# Altium schematic symbol library PD_BQ_Ref_Design.SCHLIB: 40 symbols
Pins are listed as number, name and electrical type; pins without a type are passive.

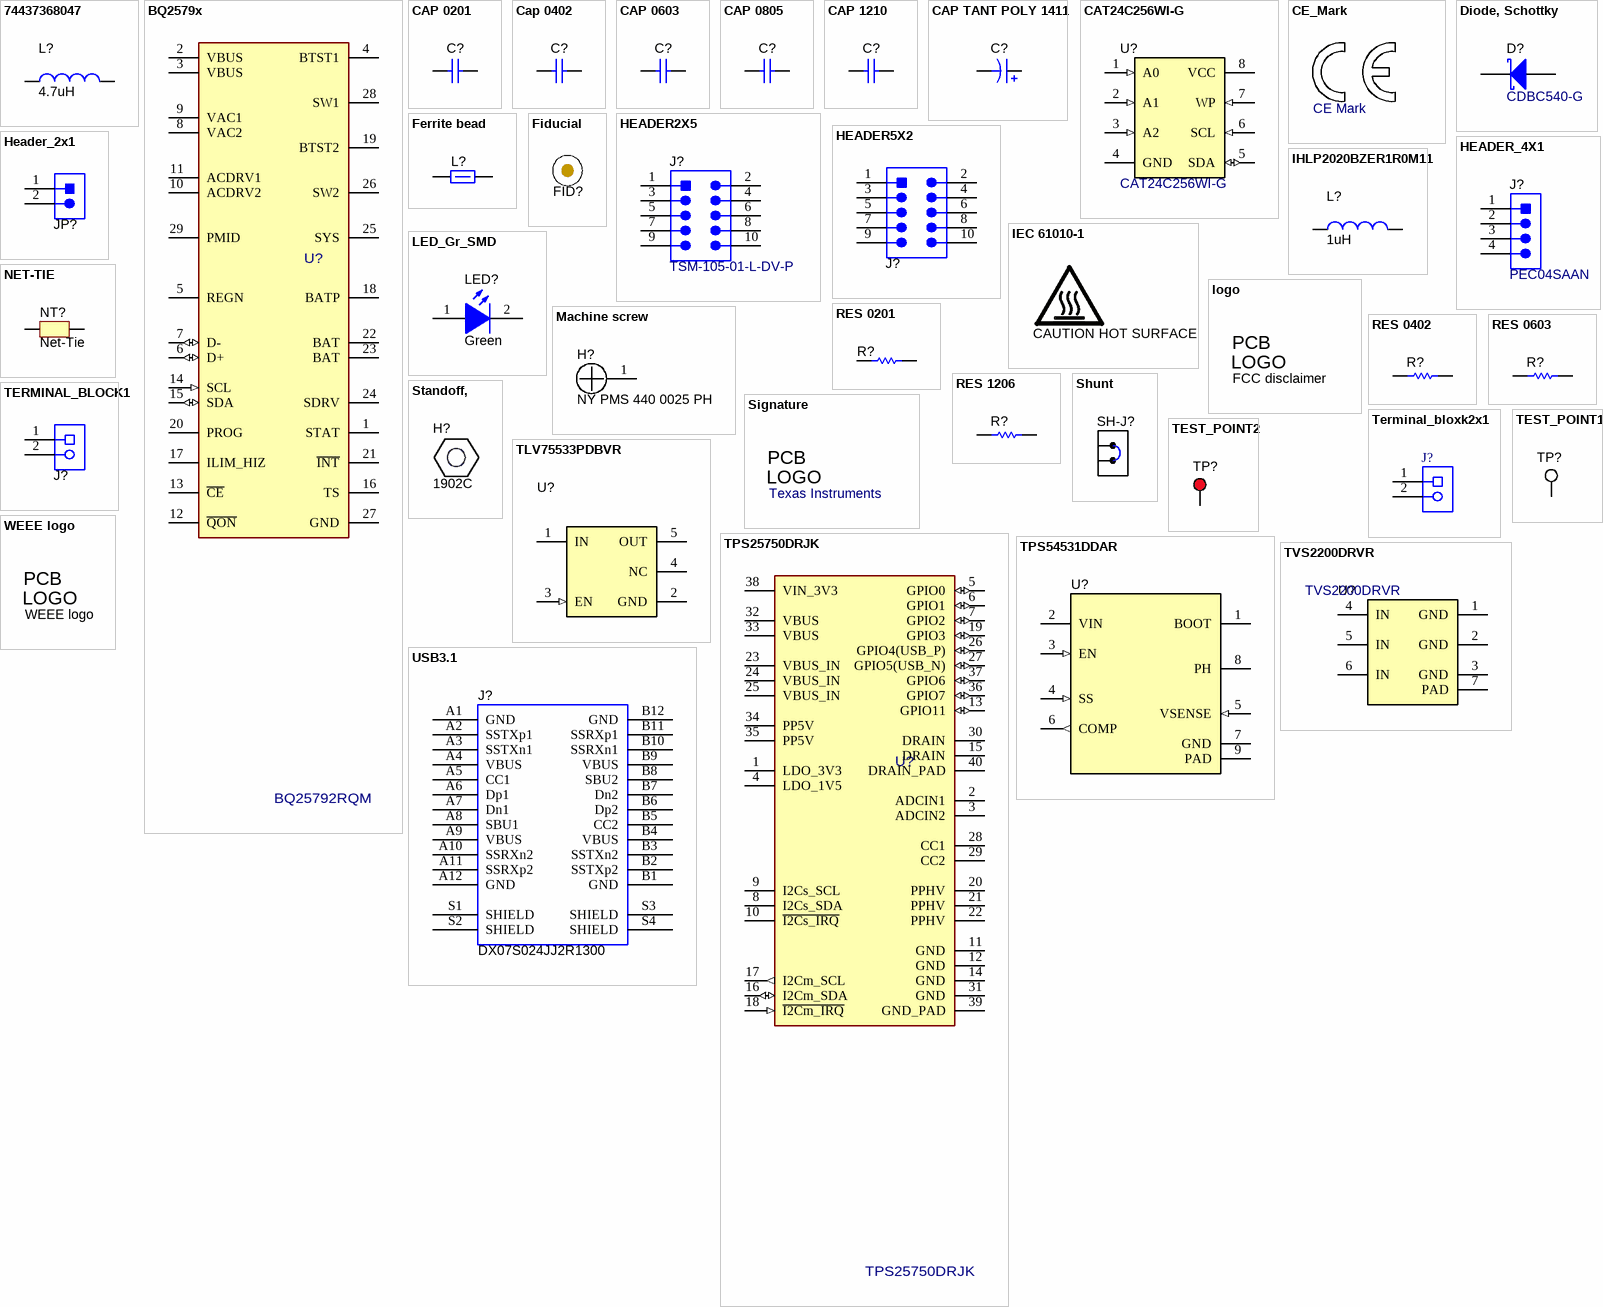
[diagram p0: symbols 74437368047 to WEEE logo]

## 74437368047
designator L?  ValueDisplayed: 4.7uH  (hidden comment: 74437368047)
Inductor, Shielded Drum Core, Powdered Iron, 4.7 uH, 7 A, 0.015 ohm, SMD; Manufacturer: Wurth Elektronik; Isat: 19A @ 20% inductance drop; Irms: 7A @ 40C rise; Green_Lifecycle: Active; SizeAreaWB_mm2: 156; DCR_ohm: 0.015; Green_REACh: Passed; Value: 4.7uH; Imax_A: 7A; SizeZ_mm: 4; SizeX_mm: 11; SizeY_mm: 10; SizeArea_mm2: 110; Ind_H: 4.7µH; AEC Category: Q200; ComponentLink1URL: http://katalog.we-online.de/kataloge/eisos/media/pdf/74437368047.pdf; Supplier Part Number 2: 82T3283; Publisher: Texas Instruments; Supplier 2: Newark; Supplier Part Number 3: 710-74437368047; Supplier 3: Mouser; Published: 2008-06-26; RoHS: Y; Value1: 0.015 ohm; Material: Powdered Iron; MountType: SMT; Green_EU RoHS-2: Incomplete; Supplier 1: Digi-Key; Green_EU RoHS: Passed; PackageReference: 10x3.8x10mm; Value2: 7A; CompType: Inductor; LatestRevisionDate: 2017-06-02; PartNumber: 74437368047; AEC Qualified: ?; ComponentLink1Description: Datasheet link; Supplier Part Number 1: 732-3389-1-ND; Technology: Shielded Drum Core
footprint WE-LHMI_1040 (Wurth)
pins: 1, 2

## BQ2579x
designator U?, comment BQ25792RQM
BQ2579x HotRod; Manufacturer: Texas Instruments; SizeZ_mm: 1mm; Standoff Height: 0mm; helpURL: https://upverter.com/upn/revision/94d0648e55e6c5c0/; Operating Temperature Range: to; Part Number: BQ25792RQM; Datasheet Path: datasheets/IC-BQ25792RQM.pdf; PackageReference: VQFN-HR29; RoHS: UNKNOWN
footprint RQM0029A-MFG
pins: 1 STAT, 2 VBUS (power), 3 VBUS (power), 4 BTST1, 5 REGN, 6 D+ (io), 7 D- (io), 8 VAC2 (power), 9 VAC1 (power), 10 ACDRV2 (power), 11 ACDRV1 (power), 12 ~{QON}, 13 ~{CE}, 14 SCL (in), 15 SDA (io), 16 TS, 17 ILIM_HIZ, 18 BATP, 19 BTST2, 20 PROG, 21 ~{INT}, 22 BAT, 23 BAT, 24 SDRV, 25 SYS, 26 SW2, 27 GND (power), 28 SW1, 29 PMID

## CAP 0201
designator C?
Manufacturer: MuRata; PartNumber: GRM033R71H331KA12D; TaMin_C: -55°C; Polarized: N; TempCo: X7R; SizeAreaWB_mm2: 2.08; Value1: Unknown; U/M: EA; Value: 330pF; TaMax_C: 125°C; Tolerance_%: 10%; SizeZ_mm: 0.33; SizeX_mm: 0.6; SizeY_mm: 0.3; Cap_Case: 0201; Value2: 50V; SizeArea_mm2: 0.18; CompType: Capacitor; AEC Category: Q200; Supplier Part Number 2: 81-GRM033R71H331KA2D; Publisher: Texas Instruments; Supplier 2: Mouser; Published: 2008-06-19; RoHS: Y; MountType: SMT; Supplier 1: Digi-Key; PackageReference: 0201; LatestRevisionDate: 2017-03-09; AEC Qualified: N; Cap_F: 330pF; ComponentLink1Description: Datasheet link; AEC Grade: N/A; Supplier Part Number 1: GRM033R71H331KA12D-ND; Technology: Ceramic; ComponentLink1URL: http://psearch.en.murata.com/capacitor/product/GRM033R71H331KA12%23.pdf
footprint 0201_033 (SMD, 2-Leads, Height 0.33mm)
footprint 0201_033L (0201)
footprint 0201_033M (0201)
pins: 1, 2

## Cap 0402
designator C?
Manufacturer: Kemet; PartNumber: C0402C102K5RACTU; TaMin_C: -55°C; Polarized: N; TempCo: X7R; SizeAreaWB_mm2: 3; Value1: Unknown; U/M: EA; Value: 1000pF; TaMax_C: 125°C; Tolerance_%: 10%; SizeZ_mm: 0.6; SizeX_mm: 1; SizeY_mm: 0.5; Cap_Case: 0402; Value2: 50V; CompType: Capacitor; Cap_F: 1nF; AEC Category: Q200; Supplier Part Number 2: 53M7151; Publisher: Texas Instruments; Supplier 2: Newark; Supplier Part Number 3: 80-C0402C102K5R; Supplier 3: Mouser; Published: 2008-06-19; RoHS: Y; MountType: SMT; Supplier 1: Digi-Key; PackageReference: 0402; SizeArea_mm2: 0.5; LatestRevisionDate: 2017-03-09; AEC Qualified: N; ComponentLink1Description: Datasheet link; AEC Grade: N/A; Supplier Part Number 1: 399-1032-1-ND; Technology: Ceramic; ComponentLink1URL: http://www.kemet.com/docfinder?Partnumber=C0402C102K5RACTU
footprint 0402 (0402 from SM-752 data)
footprint 0402S (Based on C0402S footprint from PADS legacy)
footprint 0402L (0402 from SM-752 data)
footprint 0402M (0402 from SM-752 data)
pins: 1, 2

## CAP 0603
designator C?
Manufacturer: AVX; PartNumber: 06031C103KAT2A; TaMin_C: -55°C; ESR_ohm: 0.098; Polarized: N; TempCo: X7R; SizeAreaWB_mm2: 4.68; Value1: 0.098 ohm; U/M: EA; Value: 0.01uF; TaMax_C: 125°C; Tolerance_%: 10%; SizeZ_mm: 1; SizeX_mm: 1.6; SizeY_mm: 0.8; Cap_Case: 0603; Value2: 100V; SizeArea_mm2: 1.28; CompType: Capacitor; AEC Category: Q200; Supplier Part Number 2: 96K4758; Publisher: Texas Instruments; Supplier 2: Newark; Supplier Part Number 3: 581-06031C103K; Supplier 3: Mouser; Published: 2008-06-19; RoHS: Y; MountType: SMT; Supplier 1: Digi-Key; PackageReference: 0603; LatestRevisionDate: 2017-03-09; AEC Qualified: N; ComponentLink1Description: Datasheet link; AEC Grade: N/A; Supplier Part Number 1: 478-1205-1-ND; Technology: Ceramic; ValueDisplayed: 0.01uF; ComponentLink1URL: http://datasheets.avx.com/X7RDielectric.pdf
footprint 0603 (0603 from SM-752 data)
footprint 0603_HV (Ernesto recommended land pattern.  26 mil between pads.)
footprint 0603L (0603 from SM-752 data)
footprint 0603S
footprint 0603M (0603 from SM-752 data)
pins: 1, 2

## CAP 0805
designator C?
Manufacturer: TDK; PartNumber: C2012X5R1E106K125AB; TaMin_C: -55°C; Polarized: N; TempCo: X5R; SizeAreaWB_mm2: 6.75; Value1: Unknown; U/M: EA; Value: 10uF; TaMax_C: 85°C; Tolerance_%: 10%; SizeZ_mm: 1.45; SizeX_mm: 2; SizeY_mm: 1.25; Cap_Case: 0805; Value2: 25V; SizeArea_mm2: 2.5; CompType: Capacitor; Cap_F: 10µF; AEC Category: Q200; ComponentLink1URL: http://www.tdk.com/pdf/TDKMLCCCapRange.pdf; Publisher: Texas Instruments; Published: 2008-06-19; RoHS: Y; MountType: SMT; Supplier 1: Digi-Key; PackageReference: 0805; LatestRevisionDate: 2017-03-09; AEC Qualified: ?; ComponentLink1Description: Datasheet link; Supplier Part Number 1: 445-5984-1-ND; Technology: Ceramic; VDC_V: 25V
footprint 0805_HV (0805 with 30mil clearance between pads)
footprint 0805M (0805 from SM-752 data)
footprint 0805 (0805 from SM-752 data)
footprint 0805L (0805 from SM-752 data)
footprint 0805_HV1 (Custom footprint based on analyzing multiple manufacturer recommendations)
pins: 1, 2

## CAP 1210
designator C?
Manufacturer: MuRata; PartNumber: GRM32ER61A476KE20L; TaMin_C: -55°C; ESR_ohm: 1m; Polarized: N; TempCo: X5R; SizeAreaWB_mm2: 14.7; Value1: 0.001 ohm; U/M: EA; Value: 47uF; TaMax_C: 85°C; Tolerance_%: 10%; SizeZ_mm: 2.7; SizeX_mm: 3.2; SizeY_mm: 2.5; Cap_Case: 1210; Value2: 10V; SizeArea_mm2: 8; CompType: Capacitor; Cap_F: 47µF; AEC Category: Q200; Supplier Part Number 2: 1828818; Publisher: Texas Instruments; Supplier 2: Farnell; Published: 2008-06-19; RoHS: Y; MountType: SMT; Supplier 1: Mouser; PackageReference: 1210; LatestRevisionDate: 2017-03-09; AEC Qualified: ?; ComponentLink1Description: Datasheet link; Supplier Part Number 1: 81-GRM32ER61A476KE20; Technology: Ceramic; ComponentLink1URL: http://search.murata.co.jp/Ceramy/PnsearchViewAction.do?HnOFG=ON&HnNFG=ON&SEL_CNT=50&sLang=en&sKey=GRM32ER61A476KE20L&x=9&y=9&search=startwith
footprint 1210_270 (1210)
footprint 1210_270L (1210)
footprint 1210_270M (1210)
pins: 1, 2

## CAP TANT POLY 1411
designator C?, comment T520B107M006ATE015  (value not drawn)
CAP, TA, 100 uF, 6.3 V, +/- 20%, 0.015 ohm, SMD; Manufacturer: Kemet; TaMin_C: -55°C; ESR_ohm: 0.015; Polarized: Y; SizeAreaWB_mm2: 17.1; U/M: EA; Value: 100uF; TaMax_C: 105°C; SizeZ_mm: 2.1; SizeX_mm: 3.5; SizeY_mm: 2.8; Cap_Case: 3528-21; Value2: 6.3V; SizeArea_mm2: 9.8; CompType: Capacitor; AEC Qualified: N; Cap_F: 100µF; IRMS_A: 2.9A; AEC Category: Q200; Supplier Part Number 2: 74M5065; Publisher: Texas Instruments; Supplier 2: Newark; Supplier Part Number 3: 80-T520B107M6ATE15; Supplier 3: Mouser; RoHS: Y; Value1: 0.015 ohm; MountType: SMT; Supplier 1: Digi-Key; LatestRevisionNote: Updated supplier links; PackageReference: 3528-21; Tolerance_%: 20%; LatestRevisionDate: 2017-03-09; PartNumber: T520B107M006ATE015; Series: T520; ComponentLink1Description: Datasheet link; AEC Grade: N/A; Supplier Part Number 1: 399-5306-1-ND; Technology: TA; ComponentLink1URL: http://www.kemet.com/Lists/ProductCatalog/Attachments/421/KEM_T2015_T520.pdf
footprint 3528-21 (Medium Density IPC, based on Kemet datasheet 2016-10-20)
pins: 1 +, 2 -

## CAT24C256WI-G
designator U?
256 kb I2C CMOS Serial EEPROM, SOIC-8; Manufacturer: ON Semiconductor; SizeAreaWB_mm2: 55.131; SizeZ_mm: 1.75; SizeX_mm: 5.99; SizeY_mm: 4.9; SizeArea_mm2: 29.351; Supplier Part Number 2: 06R0552; Publisher: Texas Instruments; Supplier 2: Newark; Supplier Part Number 3: 698-CAT24C256WI-G; Supplier 3: Mouser; RoHS: Y; MountType: SMT; Supplier 1: Digi-Key; PackageReference: SOIC-8; LatestRevisionDate: 09/03/2017; PartNumber: CAT24C256WI-G; ComponentLink1Description: Datasheet URL; Supplier Part Number 1: CAT24C256WI-G-ND; ComponentLink1URL: http://www.onsemi.com/pub_link/Collateral/CAT24C256-D.PDF
footprint SOIC-8 (duplicate of SO-8.  SOIC, 8-Leads, Body 5.0x4.0mm (max), Pitch 1.27mm, IPC Medium Density)
footprint SOIC-8L (Duplicate of SO-8.  SOIC, 8-Leads, Body 5.0x4.0mm (max), Pitch 1.27mm, IPC Most Density)
footprint SOIC-8M (Duplicate of SO-8M.  SOIC, 8-Leads, Body 5.0x4.0mm (max), Pitch 1.27mm, IPC Least Density)
pins: 1 A0 (in), 2 A1 (in), 3 A2 (in), 4 GND, 5 SDA (io), 6 SCL (in), 7 WP (in), 8 VCC (power)

## CE_Mark
designator Logo?, comment CE Mark  (no BOM)
SymbolCreator: a0412235; Publisher: Texas Instruments; Library Reference: CE Mark; Lib Reference: CE Mark; LatestRevisionDate: 2017-07-06; PartNumber: CE Mark; Published: 2009-03-03
footprint CE_Mark_5mm (Minimum text height for CE Mark)
footprint CE_Mark_10mm (Double the minimum text height for CE Mark)

## Diode, Schottky
designator D?, comment CDBC540-G
Diode, Schottky, 40 V, 5 A, SMC; Manufacturer: Comchip Technology; SizeZ_mm: 2.6; SizeAreaWB_mm2: 83.2686; Green_REACh: Incomplete; Green_Lifecycle: Not Set; Value1: 5A; Vf_V: 550mV; SizeY_mm: 6.22; Value2: 0.55V; AEC Category: Q101; SizeX_mm: 8.13; SizeArea_mm2: 50.5686; Value: 40V; TJmax_C: 125°C; MountType: SMT; AEC Qualified: ?; PackageReference: SMC; CompType: Diode; PartNumber: CDBC540-G; ComponentLink1Description: Datasheet link; ComponentLink1URL: http://www.comchip.com.tw/cms/UserFiles/QW-BB012%20CDBC520-G%7E5100-G%20RevC809622.pdf; Green_EU RoHS-2: Incomplete; Io_A: 5A; Green_EU RoHS: Incomplete; Vr_V: 40V; Type: Schottky; RoHS: Y
footprint SMC (Molded Diode, 2-Leads, Body 6.9x5.8mm, IPC Medium Density, based on OnSemi component dimensions and land patterns)
pins: 1 K, 2 A

## Ferrite bead
designator L?, comment FBMJ2125HM210NT  (value not drawn)
Ferrite Bead, 21 ohm @ 100 MHz, 6 A, 0805; Manufacturer: Taiyo Yuden; ZTyp@100MHz_Ohm: 21; SizeAreaWB_mm2: 6.75; DCR_ohm: 4m; Value1: 0.004 ohm; Value: 21 ohm; Imax_A: 6A; SizeZ_mm: 1.45; SizeX_mm: 2; SizeY_mm: 1.25; SizeArea_mm2: 2.5; ComponentLink1URL: http://www.yuden.co.jp/us/product/pdf/efbm_e.pdf; Publisher: Texas Instruments; Published: 2014-04-30; RoHS: Y; MountType: SMT; Supplier 1: Digi-Key; PackageReference: 0805; Value2: 6A; CompType: Ferrite Bead; LatestRevisionDate: 2017-03-09; PartNumber: FBMJ2125HM210NT; ComponentLink1Description: Datasheet link; Supplier Part Number 1: 587-1765-1-ND; ValueDisplayed: 21 ohm
footprint 0805_HV (0805 with 30mil clearance between pads)
footprint 0805M (0805 from SM-752 data)
footprint 0805 (0805 from SM-752 data)
footprint 0805L (0805 from SM-752 data)
footprint 0805_HV1 (Custom footprint based on analyzing multiple manufacturer recommendations)
pins: 1, 2

## Fiducial
designator FID?  (value not drawn)
Fiducial mark.  There is nothing to buy or mount.; CompType: Fiducial; Manufacturer: N/A; MountType: N/A; PackageReference: N/A; PartNumber: N/A; ClassName: FiducialMark; Library Reference: Fiducial
footprint Fiducial10-30
footprint Fiducial15-30
footprint Fiducial10-20
footprint Fiducial20-40
footprint Fiducial6.4-20

## HEADER2X5
designator J?, comment TSM-105-01-L-DV-P
Header, 2.54mm, 5x2, Gold, SMT; Manufacturer: Samtec; Current_A: 5.4A; Green_Lifecycle: Active; Shrouded: N; Gender: Male; Cert_CSA: Y; Green_REACh: Passed; Voltage_V: 475V; Row_Count: 2; RowSpacing_mm: 2.54; ComponentLink1URL: https://www.samtec.com/ftppub/cpdf/TSM-1XX-XX-XXX-XX-X-XXX-X-MKT.pdf; ClassName: Header; Supplier Part Number 2: 45P5170; Supplier 2: Newark; Supplier Part Number 3: 2417021; Color: Black; Supplier 3: Farnell; RoHS: Y; MountType: SMT; Green_EU RoHS-2: Passed; Supplier 1: Digi-Key; Green_EU RoHS: Passed; PackageReference: Header, 2.54mm, 5x2, SMT; PinCount: 10; CompType: Header; PartNumber: TSM-105-01-L-DV-P; Orientation: Vertical; ComponentLink1Description: Datasheet URL; Supplier Part Number 1: SAM8741-ND; Pitch_mm: 2.54; ContactFinish: Gold; Cert_UL: Y
footprint Samtec_TSM-105-01-x-DV (Header, 2.54mm, 5x2, SMT)
pins: 1, 2, 3, 4, 5, 6, 7, 8, 9, 10
1 alternate drawing of the same symbol

## HEADER5X2
designator J?, comment N2510-6002-RB  (value not drawn)
Header (shrouded), 100mil, 5x2, High-Temperature, Gold, TH; Manufacturer: 3M; Green_Lifecycle: Active; Green_REACh: Passed; ComponentLink1URL: http://multimedia.3m.com/mws/mediawebserver?mwsId=66666UF6EVsSyXTtMXM6MxfcEVtQEVs6EVs6EVs6E666666--&fn=ts0770.pdf; Supplier Part Number 2: 18M6808; Supplier 2: Newark; Supplier Part Number 3: 517-N2510-6002RB; Supplier 3: Mouser; RoHS: Y; MountType: TH; Green_EU RoHS-2: Incomplete; Supplier 1: Digi-Key; Green_EU RoHS: Passed; PackageReference: 5x2 Shrouded header; CompType: Header; PartNumber: N2510-6002-RB; ComponentLink1Description: Datasheet URL; Supplier Part Number 1: MHC10K-ND
footprint CONN_2510-6002 (3M 2500 series TS-0770-L December 15, 2011)
pins: 1, 2, 3, 4, 5, 6, 7, 8, 9, 10
1 alternate drawing of the same symbol

## Header_2x1
designator JP?  (value not drawn)
Header, 100mil, 2x1, Tin, TH; PartNumber: PEC02SAAN; Manufacturer: Sullins Connector Solutions; Pitch_mm: 2.54; Gender: Male; Shrouded: N; Row_Count: 1; Current_A: 3A; Voltage_V: 1.8kV; Cert_UL: Y; CNHeader: TRUE; CT: FALSE; Green_Lifecycle: Not Set; Green_REACh: Incomplete; PackageReference: Header, 2 PIN, 100mil, Tin; CompType: Header; RoHS: Y; MountType: TH; ComponentLink1Description: Datasheet URL; ComponentLink1URL: http://www.sullinscorp.com/catalogs/77_PAGE108-109_.100_MALE_HDR.pdf; Publisher: Texas Instruments; LatestRevisionDate: 26/05/2017; Supplier 1: Digi-Key; Supplier Part Number 1: S1012E-02-ND; ClassName: Header; Orientation: Vertical; PinCount: 2; ContactFinish: Tin; Color: Black; Green_EU RoHS-2: Incomplete; Green_EU RoHS: Incomplete
footprint CONN_PEC02SAAN (SULLINS)
pins: 1, 2
1 alternate drawing of the same symbol

## HEADER_4X1
designator J?, comment PEC04SAAN
Header, 100mil, 4x1, Tin, TH; Manufacturer: Sullins Connector Solutions; CNHeader: TRUE; Current_A: 3A; Green_Lifecycle: Not Set; Shrouded: N; Gender: Male; Green_REACh: Incomplete; Voltage_V: 1.8kV; Row_Count: 1; Pitch_mm: 2.54; CT: FALSE; Cert_UL: Y; ComponentLink1URL: http://www.sullinscorp.com/catalogs/77_PAGE108-109_.100_MALE_HDR.pdf; ClassName: Header; Publisher: Texas Instruments; Color: Black; RoHS: Y; MountType: TH; Green_EU RoHS-2: Incomplete; Supplier 1: Digi-Key; Green_EU RoHS: Incomplete; PackageReference: Header, 4x1, 100mil, TH; PinCount: 4; CompType: Header; LatestRevisionDate: 26/05/2017; PartNumber: PEC04SAAN; Orientation: Vertical; ComponentLink1Description: Datasheet URL; Supplier Part Number 1: S1012E-04-ND; ContactFinish: Tin
footprint SULLINS_PEC04SAAN (SULLINS)
pins: 1, 2, 3, 4

## IEC 61010-1
designator LOGO?, comment CAUTION HOT SURFACE  (no BOM)
IEC 61010-1 Hot Surface Warning; Library Reference: IEC_HotSurface; SymbolCreator: a0412235; Publisher: Texas Instruments; SymbolVersion: 2011-08-22; Published: 2009-03-03; Lib Reference: IEC_HotSurface; LatestRevisionDate: 2017-07-06; PartNumber: CAUTION HOT SURFACE
footprint IEC_HotSurface_Large
footprint IEC_HotSurface_Small
footprint IEC_HotSurface_Medium

## IHLP2020BZER1R0M11
designator L?  ValueDisplayed: 1uH  (hidden comment: IHLP2020BZER1R0M11)
Inductor, Shielded Drum Core, Powdered Iron, 1 uH, 7 A, 0.0181 ohm, SMD; Manufacturer: Vishay-Dale; Isat: 7A @ 20% inductance drop; Irms: 7.5A @ 40C rise; Green_Lifecycle: Active; SizeAreaWB_mm2: 53.7782; DCR_ohm: 0.0181; Green_REACh: Passed; Value: 1uH; Imax_A: 7A; SizeZ_mm: 2; SizeX_mm: 5.49; SizeY_mm: 5.18; SizeArea_mm2: 28.4382; Ind_H: 1µH; AEC Category: Q200; ComponentLink1URL: http://www.vishay.com/docs/34261/lp20bz11.pdf; Publisher: Texas Instruments; Published: 2008-06-26; RoHS: Y; Value1: 0.0181 ohm; Material: Powdered Iron; MountType: SMT; Green_EU RoHS-2: Passed; Supplier 1: Digi-Key; Green_EU RoHS: Passed; PackageReference: 5.49x2x5.18mm; Value2: 7A; CompType: Inductor; LatestRevisionDate: 2017-06-02; PartNumber: IHLP2020BZER1R0M11; AEC Qualified: ?; ComponentLink1Description: Datasheet link; Supplier Part Number 1: 541-1218-1-ND; Technology: Shielded Drum Core
footprint IHLP-2020BZ (Vishay Dale recommended land pattern.  Document 34261 rev 12-Sept-13)
pins: 1, 2

## LED_Gr_SMD
designator LED?, comment value Green  (hidden comment: LTST-C190GKT)
LED, Green, SMD; Manufacturer: Lite-On; Vf_V: 2.1V; Io_A: 20mA; Power_TotalModule: 100mW; Value1: 0.1W; CompType: LED; PartNumber: LTST-C190GKT; MountType: SMT; RoHS: Y; PackageReference: 1.6x0.8x0.8mm; Type: ?; Value2: 2.1V; Color: green; ComponentLink1URL: https://sps06.itg.ti.com/sites/KMS/crossdivteams/altium/docs/ComponentDatasheets/LTST-C190GKT.pdf; ComponentLink1Description: Datasheet link
footprint LED_LTST-C190 (Lite-On)
pins: 1 A, 2 K

## logo
designator Logo?, comment FCC disclaimer  (no BOM)
FCC_disclaimer; Library Reference: Logo; Published: 2009-03-03; Publisher: Texas Instruments; LatestRevisionDate: 2017-07-06; Lib Reference: FCC_disclaimer; PartNumber: FCC disclaimer
footprint FCC_disclaimer
footprint FCC_disclaimer_stacked
text: PCB; LOGO

## Machine screw
designator H?, comment NY PMS 440 0025 PH
Machine Screw, Round, #4-40 x 1/4, Nylon, Philips panhead; Manufacturer: B&F Fastener Supply; CompType: Hardware; ComponentLink1URL: http://www.fasnetdirect.com/refguide/Nylpanms.pdf; Key: NY PMS 440 0025 PH; Publisher: Texas Instruments; Supplier 1: Digi-Key; PackageReference: Screw; LatestRevisionDate: 2017-03-09; ClassName: Mounting Holes; RoHS: Y; Supplier Part Number 1: H542-ND; MountType: N/A; PartNumber: NY PMS 440 0025 PH; ComponentLink1Description: Datasheet Link
footprint NY PMS 440 0025 PH (4-40 nylon screw and mounting hole)
footprint NY PMS 440 0025 PH_3Donly (4-40 nylon screw)
pins: 1

## NET-TIE
designator NT?, comment Net-Tie  (net tie, no BOM)
Single point connection between nets.; MountType: SMT; CompType: Net-Tie; Manufacturer: N/A; PackageReference: N/A; PartNumber: N/A; Library Reference: Net-Tie
footprint Net-Tie_0805_HV_NoOverlay (0805_HV pads tied by 10mil copper trace which can be cut.  An 0805 part can be placed on pads.)
footprint Net-Tie_10milWide_30milLong (10mil net tie, no solder mask opening, no solder paste)
footprint NetTie_0402 (Net Tie 0402 size)
footprint Net-Tie_50milWide_30milLong (50mil net tie, no solder mask opening, no solder paste)
footprint Net-Tie_20milWide_60milLong (20mil net tie, no solder mask opening, no solder paste)
footprint Net-Tie_10mil (10mil net tie, no solder mask opening, no solder paste)
footprint NetTie_1206_NoOverlay (1206 pads tied by 10mil copper trace which can be cut.  Part can be placed on pads.)
footprint Net-Tie_0805_HV (0805_HV pads tied by 10mil copper trace which can be cut.  An 0805 part can be placed on pads.)
footprint NetTie_1206 (1206 pads tied by 10mil copper trace which can be cut.  Part can be placed on pads.)
footprint Net-Tie_5milWide_60milLong (5mil net tie, no solder mask opening, no solder paste)
footprint NetTie_0603 (Net Tie 0603 size)
footprint Net-Tie_4x6mil
footprint Net-Tie_6x8mil
pins: 1, 2

## RES 0201
designator R?
Manufacturer: Vishay-Dale; PartNumber: CRCW02010000Z0ED; Power_W: 50mW; TempCo: ppm/C; Value_Code: 0000; Value1: 5%; Value: 0; EIA_Code: E24; SizeX_mm: 0.6; SizeY_mm: 0.3; SizeZ_mm: 0.26; Value2: 0.05W; SizeArea_mm2: 0.18; CompType: Resistor; AEC Qualified: N; AEC Category: Q200; RoHS: E; MountType: SMT; Supplier 1: Newark; PackageReference: 0201; Tolerance_%: 5%; Res_ohm: 0; ComponentLink1Description: Datasheet link; AEC Grade: N/A; Supplier Part Number 1: 72M6743; Technology: Thick Film; ComponentLink1URL: http://www.vishay.com/docs/20052/crcw0201e3.pdf
footprint 0201 (Data from Kemet datasheet CC101_COM dated 7/28/11)
footprint 0201_Silk (Data from Kemet datasheet CC101_COM dated 7/28/11)
footprint 0201L (Data from Kemet datasheet CC101_COM dated 7/28/11)
footprint 0201M (Data from Kemet datasheet CC101_COM dated 7/28/11)
pins: 1, 2

## RES 0402
designator R?
PartNumber: CRCW040210K0FKED; Manufacturer: Vishay-Dale; CompType: Resistor; Res_ohm: 10k; Value_Code: 10k0; Tolerance_%: 1%; Power_W: 63mW; Value2: 0.063W; VDC_V: 50V; TempCo: 100 ppm/C; EIA_Code: E96; ValueDisplayed: 10.0k; AEC Category: Q200; AEC Qualified: Y; AEC Grade: 0; SizeArea_mm2: 0.5; SizeX_mm: 1; SizeZ_mm: 0.6; PackageReference: 0402; RoHS: E; Value1: 1%; MountType: SMT; Technology: Thick Film; ComponentLink1Description: Datasheet link; ComponentLink1URL: http://www.vishay.com/docs/20035/dcrcwe3.pdf; Supplier 1: Digi-Key; Supplier Part Number 1: 541-10.0KLCT-ND; Supplier 2: Newark; Supplier Part Number 2: 52K6595; Supplier 3: Mouser; Supplier Part Number 3: 71-CRCW0402-10K-E3; SizeY_mm: 0.5
footprint 0402 (0402 from SM-752 data)
footprint 0402S (Based on C0402S footprint from PADS legacy)
footprint 0402L (0402 from SM-752 data)
footprint 0402M (0402 from SM-752 data)
pins: 1, 2

## RES 0603
designator R?
Manufacturer: Vishay-Dale; PartNumber: CRCW060310K2FKEA; Power_W: 100mW; TempCo: 100 ppm/C; Value_Code: 10k2; Value1: 1%; Value: 10.2k; EIA_Code: E96; SizeX_mm: 1.6; SizeY_mm: 0.8; SizeZ_mm: 1; Value2: 0.1W; SizeArea_mm2: 1.28; CompType: Resistor; AEC Qualified: Y; VDC_V: 75V; AEC Category: Q200; AEC Grade: 0; Supplier Part Number 2: 52K8067; Supplier 2: Newark; Supplier Part Number 3: 71-CRCW0603-10.2K-E3; Supplier 3: Mouser; RoHS: E; MountType: SMT; Supplier 1: Digi-Key; PackageReference: 0603; Tolerance_%: 1%; Res_ohm: 10.2k; ComponentLink1Description: Datasheet link; Supplier Part Number 1: 541-10.2KHCT-ND; Technology: Thick Film; ComponentLink1URL: http://www.vishay.com/docs/20035/dcrcwe3.pdf
footprint 0603 (0603 from SM-752 data)
footprint 0603_HV (Ernesto recommended land pattern.  26 mil between pads.)
footprint 0603L (0603 from SM-752 data)
footprint 0603S
footprint 0603M (0603 from SM-752 data)
pins: 1, 2

## RES 1206
designator R?
Manufacturer: Panasonic; PartNumber: ERJ-8ENF10R0V; Power_W: 250mW; TempCo: 100 ppm/C; Value_Code: 10R0; Value1: 1%; Value: 10.0; EIA_Code: E96; Res_ohm: 10; SizeX_mm: 3.2; SizeY_mm: 1.6; SizeZ_mm: 1.35; Value2: 0.25W; SizeArea_mm2: 5.12; CompType: Resistor; AEC Qualified: Y; VDC_V: 200V; AEC Category: Q200; AEC Grade: 0; SizeAreaWB_mm2: 10.92; Supplier Part Number 2: 1748406; Supplier 2: Farnell; RoHS: Y; MountType: SMT; Supplier 1: Digi-Key; PackageReference: 1206; Tolerance_%: 1%; ComponentLink1Description: Datasheet link; Supplier Part Number 1: P10.0FCT-ND; Technology: Thick Film; ComponentLink1URL: https://industrial.panasonic.com/cdbs/www-data/pdf/RDA0000/AOA0000C304.pdf
footprint 1206 (1206 from SM-752 data)
footprint 1206M (1206 from SM-752 data)
footprint 1206L (1206 from SM-752 data)
pins: 1, 2

## Shunt
designator SH-J?, comment SNT-100-BK-G  (value not drawn)
Shunt, 100mil, Gold plated, Black; Alternate PartNumber: 969102-0000-DA; Manufacturer: Samtec; Alternate Manufacturer: 3M; Value: 1x2; Note: You can "mate" this to a header by matching the designator.  i.e. use SH-J3 for header J3; ComponentLink1URL: http://www.samtec.com/ftppub/pdf/SNT.PDF; Key: SNT-100-BK-G; Publisher: Texas Instruments; Supplier 1: Digi-Key; CompType: Shunt; PackageReference: Shunt; LatestRevisionDate: 2017-03-09; ClassName: Shunt; RoHS: Y; Supplier Part Number 1: SNT-100-BK-G-ND; MountType: N/A; PartNumber: SNT-100-BK-G; ComponentLink1Description: Datasheet Link
footprint SNT-100-BK-G (Samtec STEP model)

## Signature
designator Logo?, comment Texas Instruments  (no BOM)
Texas Instrument Corporate Signature; Library Reference: Logo; SymbolCreator: a0412235; Lib Reference: TI_Logo; ClassName: Logo; Publisher: Texas Instruments; SymbolVersion: 2011-08-22; Published: 2009-03-03; LatestRevisionDate: 2017-07-06; PartNumber: Texas Instruments
footprint TI_Horizontal_Overlay_Medium
footprint TI_Horizontal_Overlay_Small
footprint TI_Stacked_SolderMask_Small
footprint TI_Stacked_SolderMask_Small_Vertical
footprint TI_Symbol_Overlay_Medium
footprint TI_Symbol_Overlay_Small
footprint TI_Symbol_SolderMask_Medium
footprint TI_Symbol_SolderMask_Small
footprint TI_Horizontal_SolderMask_Medium
footprint TI_Horizontal_SolderMask_Small
footprint TI_Stacked_Overlay_Medium
footprint TI_Stacked_Overlay_Medium_Vertical
footprint TI_Stacked_Overlay_Small
footprint TI_Stacked_Overlay_Small_Vertical
footprint TI_Stacked_SolderMask_Medium
footprint TI_Stacked_SolderMask_Medium_Vertical
text: PCB; LOGO

## Standoff,
designator H?, comment 1902C
Standoff, Hex, 0.5"L #4-40 Nylon; Manufacturer: Keystone; CompType: Hardware; ComponentLink1URL: http://www.keyelco.com/pdfs/M55-prod31.pdf; Key: 1902C; Publisher: Texas Instruments; Supplier 1: Digi-Key; PackageReference: Standoff; LatestRevisionDate: 2017-03-09; RoHS: Y; Supplier Part Number 1: 36-1902C-ND; MountType: N/A; PartNumber: 1902C; ComponentLink1Description: Datasheet Link
footprint Keystone_1902C (Hex Standoff, 4-40 threaded, nylon)

## TERMINAL_BLOCK1
designator J?, comment 0393570002  (value not drawn)
Terminal Block, 3.5 mm, 2x1, Tin, TH; Manufacturer: Molex; CNHeader: FALSE; CT: TRUE; Green_Lifecycle: Not Set; Green_REACh: Incomplete; Supplier Part Number 3: 538-39357-0002; PartNumber: 0393570002; Green_EU RoHS: Incomplete; Supplier Part Number 1: WM7877-ND; MountType: TH; Supplier 1: Digi-Key; Supplier 2: Newark; Green_EU RoHS-2: Incomplete; PackageReference: Terminal Block, 3.5 mm, 2x1, TH; CompType: Terminal Block; LatestRevisionDate: 26/05/2017; Publisher: Texas Instruments; ComponentLink1URL: http://www.molex.com/pdm_docs/sd/393570002_sd.pdf; Supplier Part Number 2: 72K2104; RoHS: Y; Supplier 3: Mouser; ComponentLink1Description: Datasheet URL
footprint MOLEX_39357-0002 (Terminal Block, 3.5 mm, 2x1, TH)
pins: 1, 2

## Terminal_bloxk2x1
designator J?, comment ED120/2DS  (value not drawn)
Terminal Block, 5.08 mm, 2x1, Brass, TH; Manufacturer: On-Shore Technology; Cert_VDE: Y; CNHeader: False; Current_A: 15A; Green_Lifecycle: Not Set; Shrouded: N; Gender: Female; Green_REACh: Incomplete; Voltage_V: 300V; Row_Count: 1; Pitch_mm: 5.08; CT: True; ComponentLink1URL: http://www.on-shore.com/sites/default/files/manuals/ed120ds.pdf; Publisher: Texas Instruments; Color: Blue; Cert_CULUS: Y; RoHS: Y; MountType: TH; Green_EU RoHS-2: Incomplete; Supplier 1: Digi-Key; Green_EU RoHS: Incomplete; PackageReference: 2x1 5.08 mm Terminal Block; PinCount: 2; CompType: Terminal Block; LatestRevisionDate: 2017-07-12; PartNumber: ED120/2DS; Orientation: Vertical; ComponentLink1Description: Datasheet URL; Supplier Part Number 1: ED1609-ND; ContactFinish: Brass
footprint On-Shore_ED120_2DS (ONSHORE)
pins: 1, 2

## TEST_POINT1
designator TP?, comment 5016  (value not drawn)
Test Point, Compact, SMT; Manufacturer: Keystone; CNHeader: FALSE; CT: TRUE; Green_Lifecycle: Active; Green_REACh: Passed; PartNumber: 5016; PackageReference: Testpoint_Keystone_Compact; CompType: Test Point; RoHS: Y; MountType: SMT; ComponentLink1Description: Datasheet URL; ComponentLink1URL: http://www.keyelco.com/userAssets/store/files/5016.PDF; Publisher: Texas Instruments; LatestRevisionDate: 26/05/2017; Supplier 1: Digi-Key; Supplier Part Number 1: 36-5016TR-ND; Supplier 2: Mouser; Supplier Part Number 2: 534-5016; Green_EU RoHS-2: Incomplete; Green_EU RoHS: Passed
footprint Testpoint_Keystone_Compact (Compact SMT test point)
pins: 1

## TEST_POINT2
designator TP?, comment 5000  (value not drawn)
Test Point, Miniature, Red, TH; Manufacturer: Keystone; CNHeader: FALSE; ContactFinish: Silver; CT: TRUE; Green_Lifecycle: Active; Green_REACh: Passed; PartNumber: 5000; PackageReference: Red Miniature Testpoint; CompType: Test Point; RoHS: Y; MountType: TH; ComponentLink1Description: Datasheet URL; ComponentLink1URL: http://www.keyelco.com/userAssets/file/M60-2p60.pdf; Publisher: Texas Instruments; LatestRevisionDate: 26/05/2017; Supplier 1: Digi-Key; Supplier Part Number 1: 36-5000-ND; Supplier 2: Mouser; Supplier Part Number 2: 534-5000; Color: Red; Green_EU RoHS-2: Incomplete; Green_EU RoHS: Passed
footprint Keystone5000 (For Keystone 500x miniature loop terminals)
pins: 1

## TLV75533PDBVR
designator U?  (value not drawn)
500-mA, Low IQ, Small Size, Low Dropout Regulator, DBV0005A (SOT-23-5); Manufacturer: Texas Instruments; SizeX_mm: 2.8; SizeY_mm: 2.9; CompType: IC; SizeZ_mm: 1.45; SizeArea_mm2: 8.12; SizeAreaWB_mm2: 14.82; AEC Category: Q200; AEC Qualified: N; PackageDescription: SOT-23-5; ComponentLink1URL: http://www.ti.com/lit/ds/symlink/tlv755p.pdf; ComponentLink1Description: Datasheet Link; PackageReference: DBV0005A; MountType: SMT; Alternate Manufacturer: Texas Instruments; ComponentLink2Description: Product Folder; ComponentLink2URL: http://www.ti.com/product/tlv755p; ComponentLink3Description: Online Datasheet; ComponentLink3URL: http://www.ti.com/product/tlv755p/datasheet
footprint DBV0005A_N (SOT23, 5-Leads, Body 2.9x1.6mm, Pitch 0.95mm, Lead Span 2.8mm, IPC Medium Density)
footprint DBV0005A_L (SOT23, 5-Leads, Body 2.9x1.6mm, Pitch 0.95mm, Lead Span 2.8mm, IPC High Density)
footprint DBV0005A_M (SOT23, 5-Leads, Body 2.9x1.6mm, Pitch 0.95mm, Lead Span 2.8mm, IPC Low Density)
pins: 1 IN (power), 2 GND (power), 3 EN (in), 4 NC, 5 OUT (power)

## TPS25750DRJK
designator U?
USB Type-C and USB PD Controller with Integrated Power Switches Optimized for Power Applications; Manufacturer: Texas Instruments; CompType: IC; Usb Standard: USB 3.0; AEC Category: Q200; SizeZ_mm: 0.8mm; Standoff Height: 0mm; AEC Qualified: No; Max Supply Voltage: 22V; TaMax_C: +105°C; Min Supply Voltage: 3V; TaMin_C: -40°C; TJmax_C: +175°C; Number Of Ports: 1; RoHS: UNKNOWN; Part Number: TPS25750DRJK; ComponentLink3URL: http://www.ti.com/product/GPN/datasheet; helpURL: https://upverter.com/upn/revision/5be88369cac593dc/; ComponentLink1URL: http://www.ti.com/lit/ds/symlink/GPN.pdf; PackageReference: VQFN32; ComponentLink1Description: Datasheet Link; ComponentLink2URL: http://www.ti.com/product/GPN; Operating Temperature Range: -40°C to +125°C; Datasheet Path: datasheets/IC-TPS25750DRJK.pdf; ComponentLink2Description: Product Folder; ComponentLink3Description: Online Datasheet
footprint RJK0038B-C01-MFG
pins: 1 LDO_3V3, 2 ADCIN1, 3 ADCIN2, 4 LDO_1V5, 5 GPIO0 (io), 6 GPIO1 (io), 7 GPIO2 (io), 8 I2Cs_SDA, 9 I2Cs_SCL, 10 ~{I2Cs_IRQ}, 11 GND, 12 GND, 13 GPIO11 (io), 14 GND, 15 DRAIN, 16 I2Cm_SDA (io), 17 I2Cm_SCL (out), 18 ~{I2Cm_IRQ} (in), 19 GPIO3 (io), 20 PPHV, 21 PPHV, 22 PPHV, 23 VBUS_IN (power), 24 VBUS_IN (power), 25 VBUS_IN (power), 26 GPIO4(USB_P) (io), 27 GPIO5(USB_N) (io), 28 CC1, 29 CC2, 30 DRAIN, 31 GND, 32 VBUS (power), 33 VBUS (power), 34 PP5V (power), 35 PP5V (power), 36 GPIO7 (io), 37 GPIO6 (io), 38 VIN_3V3 (power), 39 GND_PAD, 40 DRAIN_PAD

## TPS54531DDAR
designator U?  (value not drawn)
3.5V to 28V Input, 5A, 570kHz Step-Down Converter with Eco-mode, DDA0008E (SOIC-8); Alternate Manufacturer: Texas Instruments; Green_Lifecycle: Active; SizeAreaWB_mm2: 57.4; Green_REACh: Passed; U/M: EA; SizeZ_mm: 1.7; SizeX_mm: 5.0; SizeY_mm: 6.2; SizeArea_mm2: 31.0; CompType: IC; ComponentLink1URL: http://www.ti.com/lit/ds/symlink/tps54531.pdf; Alternate PartNumber: TPS54531DDA; Publisher: Texas Instruments; PackageDescription: SOIC-8; RoHS: Y; MountType: SMT; Green_EU RoHS-2: Passed; Manufacturer: Texas Instruments; Green_EU RoHS: Passed; PackageReference: DDA0008E; LatestRevisionDate: 2017-06-09; ComponentLink1Description: Datasheet Link
footprint DDA0008E_L
footprint DDA0008E_M
footprint DDA0008E_N
pins: 1 BOOT (power), 2 VIN (power), 3 EN (in), 4 SS (in), 5 VSENSE (in), 6 COMP (out), 7 GND, 8 PH (power), 9 PAD (power)

## TVS2200DRVR
designator U?
22-V Precision Surge Protection Clamp, DRV0006A (WSON-6); Alternate Manufacturer: Texas Instruments; SizeAreaWB_mm2: 9.0; SizeZ_mm: 0.8; SizeX_mm: 2.0; SizeArea_mm2: 4.0; CompType: IC; AEC Qualified: N; AEC Category: Q200; ComponentLink1URL: http://www.ti.com/lit/ds/symlink/tvs3300.pdf; PackageDescription: WSON-6; MountType: SMT; ComponentLink2URL: TBD; ComponentLink2Description: Product Folder; Manufacturer: Texas Instruments; PackageReference: DRV0006A; SizeY_mm: 2.0; ComponentLink1Description: Datasheet Link
footprint DRV0006A (SON, 6-Leads, Body 2x2mm, Pitch 0.65mm, Thermal Pad 1.6x1mm, TI Recommended)
footprint DRV0006A_NV (SON, 6-Leads, Body 2x2mm, Pitch 0.65mm, Thermal Pad 1.6x1mm, TI Recommended)
pins: 1 GND, 2 GND, 3 GND, 4 IN, 5 IN, 6 IN, 7 PAD
1 alternate drawing of the same symbol

## USB3.1
designator J?, comment DX07S024JJ2R1300
Receptacle, USB 3.1 Type C, R/A, Gold, SMT; Manufacturer: JAE Electronics; Current_A: 1.25A; Gender: Female; Voltage_V: 20V; Pitch_mm: 0.5; Row_Count: 2; ComponentLink1Description: Datasheet URL; CompType: USB; ComponentLink1URL: http://www.jae.com/z-en/pdf_download_exec.cfm?param=SJ115946.pdf; PinCount: 24; ContactFinish: Gold; PartNumber: DX07S024JJ2R1300; MountType: SMT; PackageReference: Receptacle, USB 3.1 Type C, R/A, SMT; Orientation: R/A; Color: Black; RoHS: Y
footprint JAE_DX07S024JJ2R1300 (Receptacle, USB 3.1 Type C, R/A, SMT)
pins: A1 GND, A2 SSTXp1, A3 SSTXn1, A4 VBUS, A5 CC1, A6 Dp1, A7 Dn1, A8 SBU1, A9 VBUS, A10 SSRXn2, A11 SSRXp2, A12 GND, B1 GND, B2 SSTXp2, B3 SSTXn2, B4 VBUS, B5 CC2, B6 Dp2, B7 Dn2, B8 SBU2, B9 VBUS, B10 SSRXn1, B11 SSRXp1, B12 GND, S1 SHIELD, S2 SHIELD, S3 SHIELD, S4 SHIELD

## WEEE logo
designator Logo?  (no BOM)
Library Reference: WEEE logo; Lib Reference: WEEE logo; PartNumber: WEEE logo
footprint WEEE_Minimum (WEEElie bin)
text: PCB; LOGO